# Altium footprint library Buttons.PcbLib: 29 footprints (part 1 of 2)
Each footprint in its own frame and in the unit in brackets; x right, y up, seen from the top. Pads: shape width x height; smd on the part's side, far side on the other; paste and mask are expansions set on the pad; w line width, h text height; cw(c..) or ccw(c..) is an arc to the next point about the centre after c.
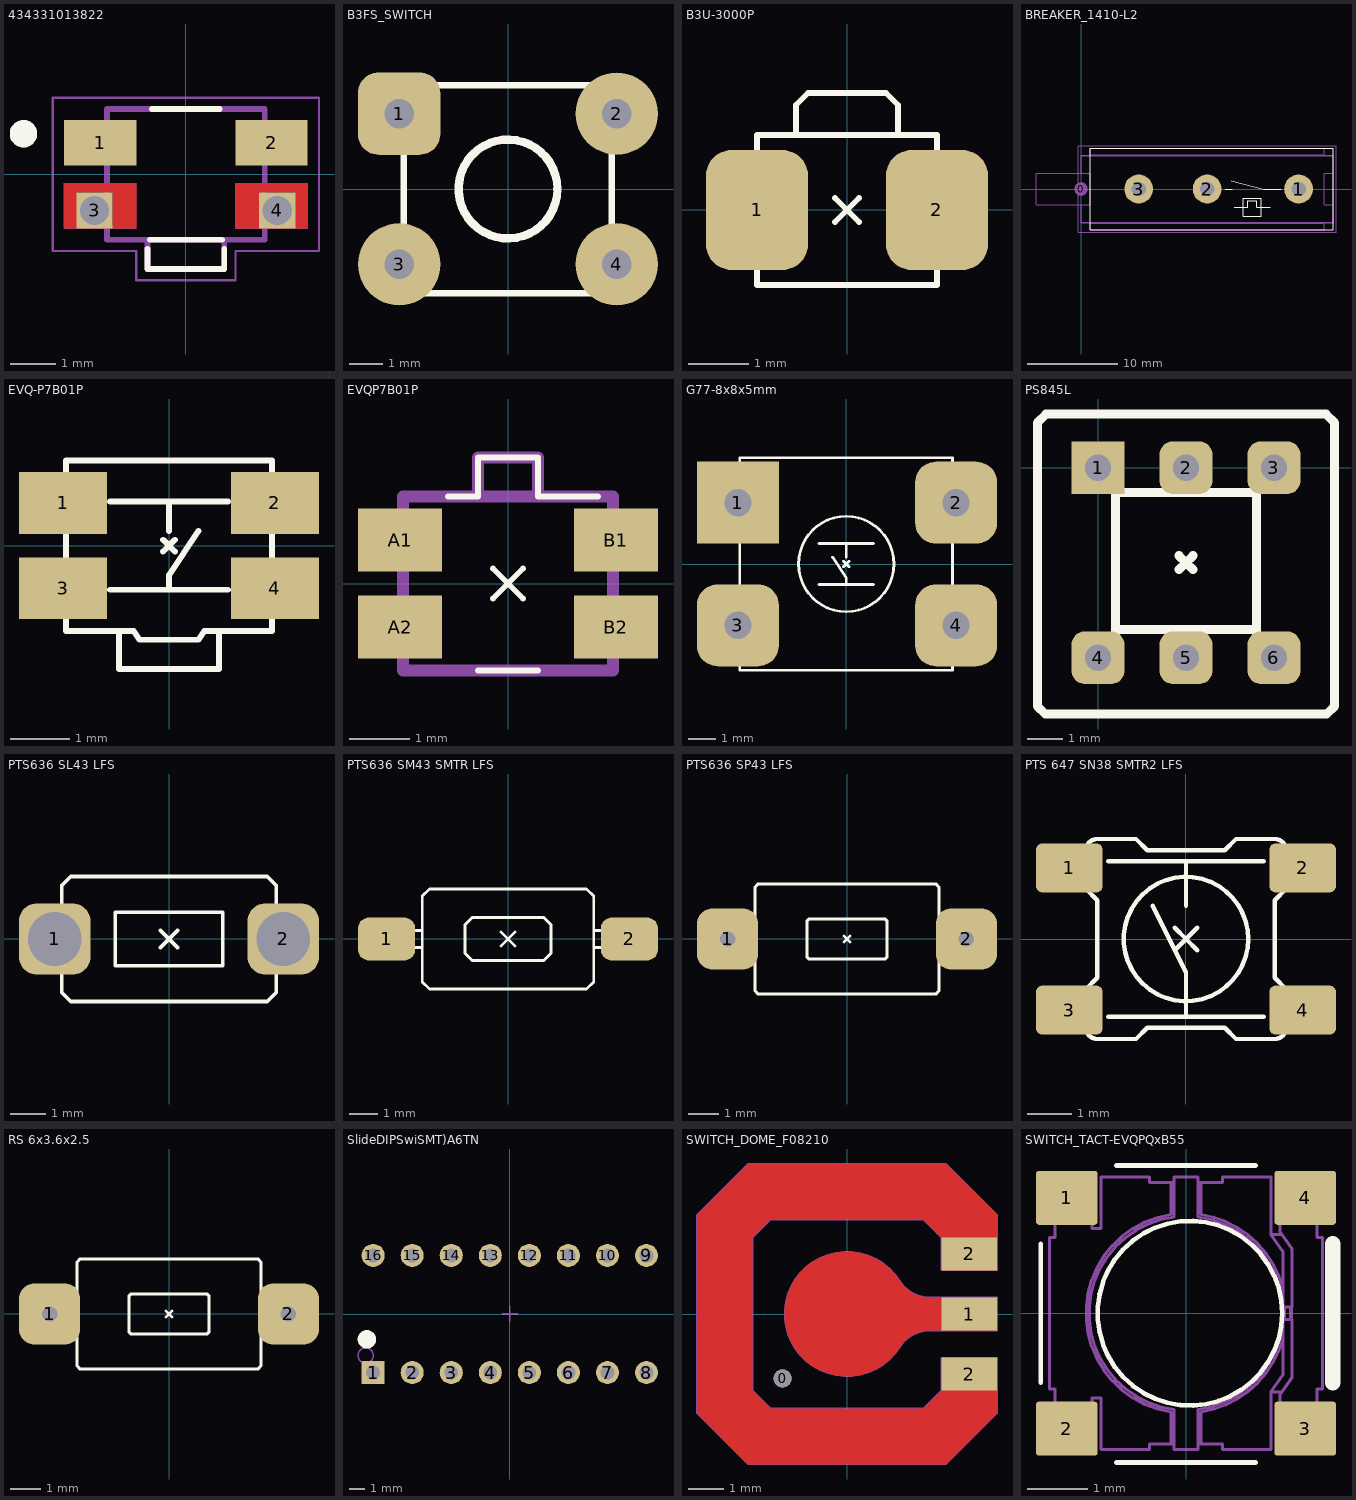
[diagram p0: the footprints below, top view; thin cyan lines are the x and y axes]

## 434331013822 [mm]
pads (4):
  rect 1.6x1 smd: 1(-1.9,0.7) 2(1.9,0.7)
  rect 0.8x0.8 hole 0.65 mask+0: 3(-2.025,-0.8) 4(2.025,-0.8)
Top Layer:
  region: 2.7,-1.2 1.9,-1.2 1.9,-1.125 2.425,-1.125 2.425,-0.4 1.9,-0.4 1.9,-0.2 2.7,-0.2
  region: 1.9,-0.4 1.625,-0.4 1.625,-1.125 1.9,-1.125 1.9,-1.2 1.1,-1.2 1.1,-0.2 1.9,-0.2
  region: -1.1,-1.2 -1.9,-1.2 -1.9,-1.125 -1.625,-1.125 -1.625,-0.4 -1.9,-0.4 -1.9,-0.2 -1.1,-0.2
  region: -1.9,-0.4 -2.425,-0.4 -2.425,-1.125 -1.9,-1.125 -1.9,-1.2 -2.7,-1.2 -2.7,-0.2 -1.9,-0.2
Top Overlay:
  circle w0.406: c-3.6,0.9 r0.1
  lines w0.127: -0.85,-1.65 -0.85,-2.1 0.85,-2.1 0.85,-1.65 ; -0.8,-1.45 0.8,-1.45 ; -0.75,1.45 0.75,1.45
Top Paste:
  drawing of 8 lines, arcs and shapes, not listed
Top Solder:
  region: 2.8,-1.3 1,-1.3 1,-0.1 2.8,-0.1
  region: -1,-1.3 -2.8,-1.3 -2.8,-0.1 -1,-0.1
Mechanical 13:
  circle w0.406: c-3.6,0.9 r0.1
  lines w0: -2.7,-1.2 -2.7,-0.2 -1.1,-0.2 -1.1,-1.2 -2.7,-1.2 ; 1.1,-1.2 1.1,-0.2 2.7,-0.2 2.7,-1.2 1.1,-1.2
  lines w0.127: -0.85,-1.45 -0.85,-2.1 0.85,-2.1 0.85,-1.45 ; -0.85,-1.45 -1.75,-1.45 -1.75,1.45 1.75,1.45 1.75,-1.45 0.85,-1.45 ; -0.85,-1.45 0.85,-1.45
Mechanical 15:
  lines w0.05: -2.95,-1.7 -1.1,-1.7 -1.1,-2.35 1.1,-2.35 1.1,-1.7 2.95,-1.7 2.95,1.7 -2.95,1.7 -2.95,-1.7
3D body "434331013822--3DModel-STEP-56544.STEP": height 1.35, standoff -0.6, extent -2.35,-2.1 2.35,1.45

## B3FS_SWITCH [mm] "SWITCH,TACTILE, PUSH BUTTON, MOMENTARY, SPST-NO, VERT, 8.5MM ACTUATOR"
height 8
pads (4):
  rrect50% 2.5x2.5 hole 0.9: 1(-3.302,2.286)
  round 2.5 hole 0.9: 2(3.302,2.286) 3(-3.302,-2.286) 4(3.302,-2.286)
Top Overlay:
  circle w0.254: c0,0 r1.5
  lines w0.2: -3.16,-3.16 -3.16,3.15 3.15,3.15 3.15,-3.16 -3.16,-3.16
3D body "User Library-SWITCH,TACTILE, PUSH BUTTON, MOMENTARY, SPST-NO, VERT, 8_5MM ACTUATOR.STEP": height 8.5, standoff -3.51, extent -3.727,-2.997 3.727,2.997

## B3U-3000P [mm]
pads (2):
  rrect50% 1.7x2 smd: 1(-1.5,0) 2(1.5,0)
Top Overlay:
  lines w0.1: -2,-0.25 -2,0.35 ; -0.85,1.3 -0.85,1.75 -0.65,1.95 0.65,1.95 0.85,1.75 0.85,1.3 ; -0.2,-0.2 0.2,0.2 ; -0.2,0.2 0.2,-0.2 ; -1.5,-0.65 -1.5,-1.25 1.5,-1.25 1.5,-0.65 ; -1.5,-0.65 -2,-0.65 -2,0.75 -1.5,0.75 ; -1.5,-0.65 -1.5,0.75 ; -1.5,0.75 -1.5,1.25 1.5,1.25 1.5,0.75 ; 1.5,-0.65 2,-0.65 2,0.75 1.5,0.75 ; 1.5,-0.65 1.5,0.75
3D body "B3U_3000P[].step": height 1.2, standoff 0, extent -2,-1.25 2,1.95

## BREAKER_1410-L2 [mm] "E-T-A Thermal Overcurrent Circuit Breaker 1410-L2"
height 10.8
pads (4):
  round 1.5 on Mech15: 0(0,0)
  round 3.2 hole 1.6: 1(24.15,0) 2(14,0) 3(6.4,0)
Top Overlay:
  lines w0.127: 16,0 16.8,0 ; 16.7,0.9 20.3,0 22.2,0 ; 17,-2 18.5,-2 18.5,-1.3 19.5,-1.3 19.5,-2 21,-2 ; 1,-4.5 1,4.5 28,4.5 28,-4.5 1,-4.5 ; 18,-3 18,-1 20,-1 20,-3 18,-3
Mechanical 13:
  lines w0.05: 0,-3.7 28,-3.7 ; 0,-1.8 0.05,-1.75 ; 0,-1.75 0,-3.75 28,-3.75 28,3.75 0,3.75 0,1.75 ; 0,1.8 0.05,1.75 ; 0,3.7 28,3.7 ; 1,-3.8 27,-3.8 ; 1,-3.75 1,-4.5 27,-4.5 27,-3.75 ; 1,3.75 1,4.5 27,4.5 27,3.75 ; 1,3.8 27,3.8 ; 28,-1.8 27.95,-1.75 ; 28,-1.7 27.95,-1.75 ; 28,1.7 27.95,1.75 ; 28,1.8 27.95,1.75 ; 27.95,-1.75 27,-1.75 27,1.75 27.95,1.75 ; -5,-1.75 -5,1.75 1,1.75 1,-1.75 -5,-1.75
Mechanical 15:
  lines w0.127: -0.3,-4.8 28.3,-4.8 28.3,4.8 -0.3,4.8 -0.3,-4.8
3D body "Circuit Breaker 1410-L2.STEP": height 10.8, standoff -3.3, extent -5,-4.5 28,4.5

## EVQ-P7B01P [mm]
height 1.35
pads (4):
  rect 1.5x1.05 smd: 1(-1.8,0.725) 2(1.8,0.725) 3(-1.8,-0.725) 4(1.8,-0.725)
Top Overlay:
  lines w0.1: -1.75,-1.05 -2.15,-1.05 -2.15,-0.45 -1.75,-0.45 ; -1.75,0.45 -2.15,0.45 -2.15,1.05 -1.75,1.05 ; -1,-0.75 1,-0.75 ; -1,0.75 1,0.75 ; -0.85,-1.45 -0.85,-2.1 0.85,-2.1 0.85,-1.45 ; -0.1,-0.1 0.1,0.1 ; -0.1,0.1 0.1,-0.1 ; 0,-0.75 0,-0.5 0.5,0.25 ; 0,0.25 0,0.75 ; 1.75,-1.05 2.15,-1.05 2.15,-0.45 1.75,-0.45 ; 1.75,0.45 2.15,0.45 2.15,1.05 1.75,1.05 ; -1.75,-1.45 -0.6,-1.45 -0.5,-1.6 0.5,-1.6 0.6,-1.45 1.75,-1.45 1.75,1.45 -1.75,1.45 -1.75,-1.45
3D body "User Library-EVQP7-LC-01P-1.step": height 1.5, standoff -0.35, extent -2.35,-2.1 2.35,1.594

## EVQP7B01P [mm]
pads (4):
  rect 1.4x1.05 smd: A1(-1.8,0.725) A2(-1.8,-0.725) B1(1.8,0.725) B2(1.8,-0.725)
Top Overlay:
  lines w0.1: -1,1.45 -0.5,1.45 -0.5,2.1 0.5,2.1 0.5,1.45 1.5,1.45 ; -0.5,-1.45 0.5,-1.45 ; -0.25,-0.25 0.25,0.25 ; -0.25,0.25 0.25,-0.25
Mechanical 13:
  lines w0.2: -0.5,1.45 -0.5,2.1 0.5,2.1 0.5,1.45 ; -1.75,-1.45 -1.75,1.45 1.75,1.45 1.75,-1.45 -1.75,-1.45
3D body "User Library-EVQP7-LC-01P-1.step": height 1.5, standoff -0.35, extent -2.35,-1.594 2.35,2.1

## G77-8x8x5mm [mm]
height 5.5
pads (4):
  rect 3x3 hole 1: 1(-3.972,2.25)
  rrect50% 3x3 hole 1: 2(4.028,2.25) 3(-3.972,-2.25) 4(4.028,-2.25)
Top Overlay:
  circle w0.1: c0,0 r1.75
  lines w0.1: -1,-0.75 1,-0.75 ; -1,0.75 1,0.75 ; -0.5,0.25 0,-0.5 0,-0.75 ; -0.1,-0.1 0.1,0.1 ; -0.1,0.1 0.1,-0.1 ; 0,0.25 0,0.75 ; -3.9,-3.9 -3.9,3.9 3.9,3.9 3.9,-3.9 -3.9,-3.9

## PS845L [mm] "Кнопка миниатюрная с фиксацией, 8.45х8.45 мм (0.1A 30VDC)"
pads (6):
  rect 1.5x1.5 hole 0.75: 1(0,0)
  rrect50% 1.5x1.5 hole 0.75: 2(2.5,0) 3(5,0) 4(0,-5.4) 5(2.5,-5.4) 6(5,-5.4)
Top Overlay:
  lines w0.254: 0.5,-4.7 0.5,-0.7 4.5,-0.7 4.5,-4.7 ; 0.5,-4.6 4.5,-4.6 ; 2.3,-2.9 2.5,-2.7 ; 2.3,-2.5 2.5,-2.7 ; 2.7,-2.9 2.5,-2.7 ; 2.7,-2.5 2.5,-2.7 ; -1.725,-6.775 -1.5,-7 6.5,-7 6.725,-6.775 6.725,1.275 6.475,1.525 -1.475,1.525 -1.725,1.275 -1.725,-6.775

## PTS636 SL43 LFS [mm]
height 5
pads (2):
  rrect50% 2x2 hole 1.5: 1(-3.2,0) 2(3.2,0)
Top Overlay:
  lines w0.1: -3,-0.3 -3.85,-0.3 -3.85,0.3 -3,0.3 ; -0.25,-0.25 0.25,0.25 ; -0.25,0.25 0.25,-0.25 ; 3,-0.3 3.85,-0.3 3.85,0.3 3,0.3 ; -3,-1.5 -2.75,-1.75 2.75,-1.75 3,-1.5 3,1.5 2.75,1.75 -2.75,1.75 -3,1.5 -3,-1.5 ; -1.5,-0.75 -1.5,0.75 1.5,0.75 1.5,-0.75 -1.5,-0.75

## PTS636 SM43 SMTR LFS [mm]
height 4.3
pads (2):
  rrect50% 2x1.5 smd: 1(-4.25,0) 2(4.25,0)
Top Overlay:
  lines w0.1: -3,-0.3 -4.35,-0.3 -4.35,0.3 -3,0.3 ; -0.25,-0.25 0.25,0.25 ; -0.25,0.25 0.25,-0.25 ; 3,-0.3 4.35,-0.3 4.35,0.3 3,0.3 ; -3,-1.5 -2.75,-1.75 2.75,-1.75 3,-1.5 3,1.5 2.75,1.75 -2.75,1.75 -3,1.5 -3,-1.5 ; -1.5,-0.5 -1.25,-0.75 1.25,-0.75 1.5,-0.5 1.5,0.5 1.25,0.75 -1.25,0.75 -1.5,0.5 -1.5,-0.5
3D body: height 4.3, standoff 0.75, extent -1.5,-0.75 1.5,0.75
3D body: height 3.3, standoff 0, extent -3,-1.75 3,1.75

## PTS636 SP43 LFS [mm]
pads (2):
  rrect50% 2x2 hole 0.5: 1(-3.9,0) 2(3.9,0)
Top Overlay:
  lines w0.1: -3,-0.3 -4,-0.3 -4,0 -4,0.3 -3,0.3 ; -0.1,-0.1 0.1,0.1 ; -0.1,0.1 0.1,-0.1 ; 3,-0.3 4,-0.3 4,0 4,0.3 3,0.3 ; -3,-1.7 -2.9,-1.8 2.9,-1.8 3,-1.7 3,1.7 2.9,1.8 -2.9,1.8 -3,1.7 -3,-1.7 ; -1.3,-0.6 -1.3,0.6 -1.25,0.65 1.25,0.65 1.3,0.6 1.3,-0.6 1.25,-0.65 -1.25,-0.65 -1.3,-0.6

## PTS 647 SN38 SMTR2 LFS [mm]
pads (4):
  rrect25% 1.5x1.1 smd: 1(-2.625,1.6) 2(2.625,1.6) 3(-2.625,-1.6) 4(2.625,-1.6)
Top Overlay:
  circle w0.1: c0,0 r1.4
  lines w0.1: -1.75,-1.75 1.75,-1.75 ; -1.75,1.75 1.75,1.75 ; -0.75,0.75 0,-0.75 0,-1.75 ; -0.25,-0.25 0.25,0.25 ; -0.25,0.25 0,0 0.25,-0.25 ; 0,0.75 0,1.75 ; -2.25,-2 ccw(c-2,-2) -2,-2.25 -1.125,-2.25 -0.875,-2 0.875,-2 1.125,-2.25 2,-2.25 ccw(c2,-2) 2.25,-2 2.25,-1.125 2,-0.875 2,0.875 2.25,1.125 2.25,2 ccw(c2,2) 2,2.25 1.125,2.25 0.875,2 -0.875,2 -1.125,2.25 -2,2.25 ccw(c-2,2) -2.25,2 -2.25,1.125 -2,0.875 -2,-0.875 -2.25,-1.125 -2.25,-2
3D body "PTS_647_SN38_SMTR2_LFS.stp": height 3.8, standoff 0, extent -3.25,-2.25 3.25,2.25

## RS 6x3.6x2.5 [mm] "SWITCH TACTILE SPST-NO 0.05A 12V"
height 2.5
pads (2):
  rrect50% 2x2 hole 0.5: 1(-3.9,0) 2(3.9,0)
Top Overlay:
  lines w0.1: -3,-0.3 -4,-0.3 -4,0 -4,0.3 -3,0.3 ; -0.1,-0.1 0.1,0.1 ; -0.1,0.1 0.1,-0.1 ; 3,-0.3 4,-0.3 4,0 4,0.3 3,0.3 ; -3,-1.7 -3,1.7 -2.9,1.8 2.9,1.8 3,1.7 3,-1.7 2.9,-1.8 -2.9,-1.8 -3,-1.7 ; -1.3,-0.6 -1.25,-0.65 1.25,-0.65 1.3,-0.6 1.3,0.6 1.25,0.65 -1.25,0.65 -1.3,0.6 -1.3,-0.6

## SlideDIPSwiSMT)A6TN [mm]
pads (16):
  rect 1.5x1.5 hole 0.9: 1(-8.89,-3.81)
  round 1.5 hole 0.9: 2(-6.35,-3.81) 3(-3.81,-3.81) 4(-1.27,-3.81) 5(1.27,-3.81) 6(3.81,-3.81) 7(6.35,-3.81) 8(8.89,-3.81) 9(8.89,3.81) 10(6.35,3.81) 11(3.81,3.81) 12(1.27,3.81) 13(-1.27,3.81) 14(-3.81,3.81) 15(-6.35,3.81) 16(-8.89,3.81)
Top Overlay:
  circle w0.6: c-9.3,-1.65 r0.3
Mechanical 13:
  circle w0.1: c-9.375,-2.7 r0.5
Mechanical 15:
  lines w0.1: -0.5,0 0.5,0 ; 0,-0.5 0,0.5
3D body "switch_a6tn-1101.stp": height 5.25, standoff -2.25, extent 6.645,-4.35 11.135,4.35
3D body "switch_a6tn-1101.stp": height 5.25, standoff -2.25, extent 4.105,-4.35 8.595,4.35
3D body "switch_a6tn-1101.stp": height 5.25, standoff -2.25, extent 1.565,-4.35 6.055,4.35
3D body "switch_a6tn-1101.stp": height 5.25, standoff -2.25, extent -0.975,-4.35 3.515,4.35
3D body "switch_a6tn-1101.stp": height 5.25, standoff -2.25, extent -3.515,-4.35 0.975,4.35
3D body "switch_a6tn-1101.stp": height 5.25, standoff -2.25, extent -6.055,-4.35 -1.565,4.35
3D body "switch_a6tn-1101.stp": height 5.25, standoff -2.25, extent -8.595,-4.35 -4.105,4.35
3D body "switch_a6tn-1101.stp": height 5.25, standoff -2.25, extent -11.135,-4.35 -6.645,4.35

## SWITCH_DOME_F08210 [mm] "Snaptron F08210 dome switch"
height 0.5
pads (4):
  round 0.508 hole 0.508 unplated: 0(-1.8,-1.8)
  rect 1.55x0.92 smd paste-0.8: 1(3.415,0) 2(3.415,-1.68) 2(3.415,1.68)
Top Layer:
  region: 1.472,-0.927 1.372,-1.086 1.109,-1.354 0.795,-1.559 0.444,-1.693 0.073,-1.749 -0.302,-1.724 -0.663,-1.62 -0.993,-1.441 -1.278,-1.196 -1.503,-0.896 -1.66,-0.555 -1.74,-0.188 -1.74,0.188 -1.66,0.555 -1.503,0.896 -1.278,1.196 -0.993,1.441 -0.663,1.62 -0.302,1.724 0.073,1.749 0.444,1.693 0.795,1.559 1.109,1.354 1.372,1.086 1.472,0.927 1.546,0.825 1.729,0.652 1.949,0.531 2.193,0.468 2.319,0.46 4.19,0.46 4.19,-0.46 2.319,-0.46 2.193,-0.468 1.949,-0.531 1.729,-0.652 1.546,-0.825
  region: -2.77,-4.19 -4.19,-2.77 -4.19,2.77 -2.77,4.19 2.77,4.19 4.19,2.77 4.19,1.22 2.64,1.22 2.64,2.128 2.128,2.64 -2.128,2.64 -2.64,2.128 -2.64,-2.128 -2.128,-2.64 2.128,-2.64 2.64,-2.128 2.64,-1.22 4.19,-1.22 4.19,-2.77 2.77,-4.19
Mechanical 3:
  lines w0.05: -4.19,-2.77 -2.77,-4.19 2.77,-4.19 4.19,-2.77 4.19,-1.22 2.64,-1.22 2.64,-2.128 2.128,-2.64 -2.128,-2.64 -2.64,-2.128 -2.64,2.128 -2.128,2.64 2.128,2.64 2.64,2.128 2.64,1.22 4.19,1.22 4.19,2.77 2.77,4.19 -2.77,4.19 -4.19,2.77 -4.19,-2.77 ; 1.472,-0.927 cw(c2.319,-1.46) 2.319,-0.46 4.19,-0.46 4.19,0.46 2.319,0.46 cw(c2.319,1.46) 1.472,0.927 ccw(c0,0) 1.472,-0.927
3D body "Snap Dome F08210.STEP": height 0.48, standoff 0, extent -3.546,-3.546 3.546,3.546

## SWITCH_TACT-EVQPQxB55 [mil] "Panasonic SMD tact switch 4.5x4.5x0.55mm, EVQPQxB55"
height 21.65
pads (4):
  rrect10% 40x35 smd: 1(-77.5,75) 2(-77.5,-75) 3(77.5,-75) 4(77.5,75)
Top Overlay:
  circle w3: c2.5,0 r60
  lines w3: -94.5,-45.28 -94.5,45.28 ; -45.28,-97 45.28,-97 ; -45.28,96 45.28,96
  lines w10: 95.5,-45.28 95.5,45.28
Mechanical 13:
  lines w1.97: -85.04,-84.12 -61.02,-84.12 ; -85.04,-79.15 -61.02,-79.15 ; -85.04,-77.22 -61.02,-77.22 ; -85.04,-68.45 -61.02,-68.45 ; -85.04,-66.52 -61.02,-66.52 ; -85.04,-62.25 -61.02,-62.25 ; -85.04,-58.68 -61.02,-58.68 ; -85.04,58.68 -61.02,58.68 ; -85.04,62.25 -61.02,62.25 ; -85.04,66.52 -61.02,66.52 ; -85.04,68.45 -61.02,68.45 ; -85.04,77.22 -61.02,77.22 ; -85.04,79.15 -61.02,79.15 ; -85.04,84.12 -61.02,84.12 ; -9.84,-85.04 -9.84,-64.21 cw(c0,0) -9.84,64.21 -9.84,85.04 ; -7.87,-85.04 -23.62,-85.04 -23.62,-88.58 -55.12,-88.58 -55.12,-55.12 -61.02,-55.12 -61.02,-86.61 -85.04,-86.61 -85.04,-49.21 -88.58,-49.21 -88.58,49.21 -85.04,49.21 -85.04,86.61 -61.02,86.61 -61.02,55.12 -55.12,55.12 -55.12,88.58 -23.62,88.58 -23.62,85.04 -7.87,85.04 ; -7.87,-62.5 -7.87,-88.58 7.87,-88.58 7.87,-62.5 ; -7.87,62.5 -7.87,88.58 7.87,88.58 7.87,62.5 ; -7.81,-62.51 cw(c0,0) -7.81,62.51 ; 7.81,-62.51 ccw(c0,0) 7.81,62.51 ; 7.87,-85.04 23.62,-85.04 23.62,-88.58 55.12,-88.58 55.12,-51.29 62.99,-40.04 62.99,40.04 55.12,51.29 55.12,88.58 23.62,88.58 23.62,85.04 7.87,85.04 ; 9.84,-85.04 9.84,-64.21 ccw(c0,0) 62.99,-15.87 ; 9.84,85.04 9.84,64.21 cw(c0,0) 62.99,15.87 ; 55.19,-51.18 62.4,-51.18 ; 55.19,51.18 62.4,51.18 ; 61.02,-84.12 85.04,-84.12 ; 61.02,-79.15 85.04,-79.15 ; 61.02,-77.22 85.04,-77.22 ; 61.02,-68.45 85.04,-68.45 ; 61.02,-66.52 85.04,-66.52 ; 61.02,-62.25 85.04,-62.25 ; 61.02,-58.68 85.04,-58.68 ; 61.02,58.68 85.04,58.68 ; 61.02,62.25 85.04,62.25 ; 61.02,66.52 85.04,66.52 ; 61.02,68.45 85.04,68.45 ; 61.02,77.22 85.04,77.22 ; 61.02,79.15 85.04,79.15 ; 61.02,84.12 85.04,84.12 ; 64.09,-3.94 64.09,3.94 ; 67.8,-3.94 67.8,3.94 ; 68.44,-3.94 68.44,3.94 ; 61.02,-86.61 85.04,-86.61 85.04,-49.21 88.58,-49.21 88.58,49.21 85.04,49.21 85.04,86.61 61.02,86.61 61.02,53.15 68.9,41.9 68.9,3.94 63.45,3.94 63.45,-3.94 68.9,-3.94 68.9,-41.9 61.02,-53.15 61.02,-86.61
3D body "TACT_EVQ-PQHB55.STEP": height 21.65, standoff 0, extent -88.57,-88.58 88.59,88.59